# Altium footprint library PMA3-63GLN&plus_.PcbLib: 3 footprints
Each footprint in its own frame and in the unit in brackets; x right, y up, seen from the top. Pads: shape width x height; smd on the part's side, far side on the other; paste and mask are expansions set on the pad; w line width, h text height; cw(c..) or ccw(c..) is an arc to the next point about the centre after c.
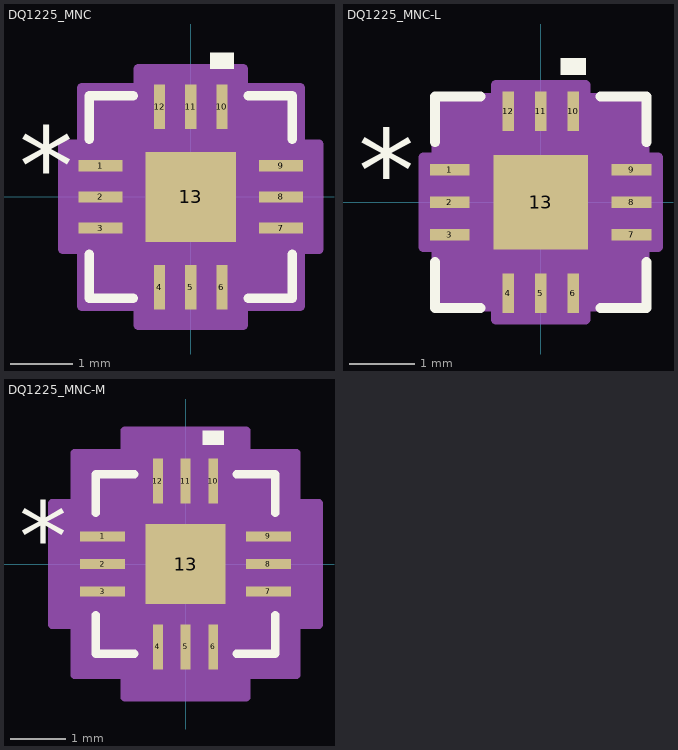
[diagram p0: the footprints below, top view; thin cyan lines are the x and y axes]

## DQ1225_MNC [mil]
pads (13):
  rect 28x7 smd paste+0 mask+0: 1(-57,19.68) 2(-57,0) 3(-57,-19.68) 7(57,-19.68) 8(57,0) 9(57,19.68)
  rect 7x28 smd paste+0 mask+0: 4(-19.68,-57) 5(0,-57) 6(19.68,-57) 10(19.68,57) 11(0,57) 12(-19.68,57)
  rect 57x57 smd paste+0 mask+0: 13(0,0)
Top Overlay:
  region: 27.18,81 12.19,81 12.19,91 27.18,91
  lines w6: -64,-36.28 -64,-64 -36.28,-64 ; -64,36.28 -64,64 -36.28,64 ; 36.28,-64 64,-64 64,-36.28 ; 36.28,64 64,64 64,36.28
  text "*" at -108.5,-5.32 h50
Mechanical 13:
  lines w1: -59,9 -9,59 ; -59,-24.18 -59,-15.19 ; -59,-24.18 -59,-15.19 ; -59,-24.18 -59,-24.18 ; -59,-15.19 -59,-15.19 ; -59,-4.5 -59,4.5 ; -59,-4.5 -59,4.5 ; -59,-4.5 -59,-4.5 ; -59,4.5 -59,4.5 ; -59,15.19 -59,24.18 ; -59,15.19 -59,24.18 ; -59,15.19 -59,15.19 ; -59,24.18 -59,24.18 ; -24.18,-59 -15.19,-59 ; -24.18,-59 -24.18,-59 ; -24.18,-59 -15.19,-59 ; -24.18,59 -15.19,59 ; -24.18,59 -15.19,59 ; -24.18,59 -24.18,59 ; -15.19,-59 -15.19,-59 ; -15.19,59 -15.19,59 ; -4.5,-59 4.5,-59 ; -4.5,-59 -4.5,-59 ; -4.5,-59 4.5,-59 ; -4.5,59 4.5,59 ; -4.5,59 4.5,59 ; -4.5,59 -4.5,59 ; 4.5,-59 4.5,-59 ; 4.5,59 4.5,59 ; 15.19,-59 24.18,-59 ; 15.19,-59 15.19,-59 ; 15.19,-59 24.18,-59 ; 15.19,59 24.18,59 ; 15.19,59 24.18,59 ; 15.19,59 15.19,59 ; 24.18,-59 24.18,-59 ; 24.18,59 24.18,59 ; 59,-24.18 59,-15.19 ; 59,-24.18 59,-24.18 ; 59,-24.18 59,-15.19 ; 59,-15.19 59,-15.19 ; 59,-4.5 59,4.5 ; 59,-4.5 59,-4.5 ; 59,-4.5 59,4.5 ; 59,4.5 59,4.5 ; 59,15.19 59,24.18 ; 59,15.19 59,15.19 ; 59,15.19 59,24.18 ; 59,24.18 59,24.18 ; -59,-59 59,-59 59,59 -59,59 -59,-59
  text "*" at -30.5,-5.32 h50
Mechanical 15:
  region: -33.19,-69 -69,-69 -69,-33.19 -81,-33.19 -81,33.19 -69,33.19 -69,69 -33.19,69 -33.19,81 33.19,81 33.19,69 69,69 69,33.19 81,33.19 81,-33.19 69,-33.19 69,-69 33.19,-69 33.19,-81 -33.19,-81
  lines w6: -81,-33.19 -69,-33.19 -69,-69 -33.19,-69 -33.19,-81 33.19,-81 33.19,-69 69,-69 69,-33.19 81,-33.19 81,33.19 69,33.19 69,69 33.19,69 33.19,81 -33.19,81 -33.19,69 -69,69 -69,33.19 -81,33.19 -81,-33.19
3D body "DQ1225_MNC.step": height 35.12, standoff 0, extent -59.02,-59.02 59.02,59.02

## DQ1225_MNC-L [mil]
pads (13):
  rect 24x7 smd paste+0 mask+0: 1(-55,19.68) 2(-55,0) 3(-55,-19.68) 7(55,-19.68) 8(55,0) 9(55,19.68)
  rect 7x24 smd paste+0 mask+0: 4(-19.68,-55) 5(0,-55) 6(19.68,-55) 10(19.68,55) 11(0,55) 12(-19.68,55)
  rect 57x57 smd paste+0 mask+0: 13(0,0)
Top Overlay:
  region: 27.18,77 12.19,77 12.19,87 27.18,87
  lines w6: -64,-36.28 -64,-64 -36.28,-64 ; -64,36.28 -64,64 -36.28,64 ; 36.28,-64 64,-64 64,-36.28 ; 36.28,64 64,64 64,36.28
  text "*" at -110.5,-5.32 h50
Mechanical 13:
  lines w1: -59,9 -9,59 ; -59,-24.18 -59,-15.19 ; -59,-24.18 -59,-15.19 ; -59,-24.18 -59,-24.18 ; -59,-15.19 -59,-15.19 ; -59,-4.5 -59,4.5 ; -59,-4.5 -59,4.5 ; -59,-4.5 -59,-4.5 ; -59,4.5 -59,4.5 ; -59,15.19 -59,24.18 ; -59,15.19 -59,24.18 ; -59,15.19 -59,15.19 ; -59,24.18 -59,24.18 ; -24.18,-59 -15.19,-59 ; -24.18,-59 -24.18,-59 ; -24.18,-59 -15.19,-59 ; -24.18,59 -15.19,59 ; -24.18,59 -15.19,59 ; -24.18,59 -24.18,59 ; -15.19,-59 -15.19,-59 ; -15.19,59 -15.19,59 ; -4.5,-59 4.5,-59 ; -4.5,-59 -4.5,-59 ; -4.5,-59 4.5,-59 ; -4.5,59 4.5,59 ; -4.5,59 4.5,59 ; -4.5,59 -4.5,59 ; 4.5,-59 4.5,-59 ; 4.5,59 4.5,59 ; 15.19,-59 24.18,-59 ; 15.19,-59 15.19,-59 ; 15.19,-59 24.18,-59 ; 15.19,59 24.18,59 ; 15.19,59 24.18,59 ; 15.19,59 15.19,59 ; 24.18,-59 24.18,-59 ; 24.18,59 24.18,59 ; 59,-24.18 59,-15.19 ; 59,-24.18 59,-24.18 ; 59,-24.18 59,-15.19 ; 59,-15.19 59,-15.19 ; 59,-4.5 59,4.5 ; 59,-4.5 59,-4.5 ; 59,-4.5 59,4.5 ; 59,4.5 59,4.5 ; 59,15.19 59,24.18 ; 59,15.19 59,15.19 ; 59,15.19 59,24.18 ; 59,24.18 59,24.18 ; -59,-59 59,-59 59,59 -59,59 -59,-59
  text "*" at -24.5,-5.32 h50
Mechanical 15:
  region: -27.18,-63 -63,-63 -63,-27.18 -71,-27.18 -71,27.18 -63,27.18 -63,63 -27.18,63 -27.18,71 27.18,71 27.18,63 63,63 63,27.18 71,27.18 71,-27.18 63,-27.18 63,-63 27.18,-63 27.18,-71 -27.18,-71
  lines w6: -71,-27.18 -63,-27.18 -63,-63 -27.18,-63 -27.18,-71 27.18,-71 27.18,-63 63,-63 63,-27.18 71,-27.18 71,27.18 63,27.18 63,63 27.18,63 27.18,71 -27.18,71 -27.18,63 -63,63 -63,27.18 -71,27.18 -71,-27.18
3D body "DQ1225_MNC.step": height 35.12, standoff 0, extent -59.02,-59.02 59.02,59.02

## DQ1225_MNC-M [mil]
pads (13):
  rect 32x7 smd paste+0 mask+0: 1(-59,19.68) 2(-59,0) 3(-59,-19.68) 7(59,-19.68) 8(59,0) 9(59,19.68)
  rect 7x32 smd paste+0 mask+0: 4(-19.68,-59) 5(0,-59) 6(19.68,-59) 10(19.68,59) 11(0,59) 12(-19.68,59)
  rect 57x57 smd paste+0 mask+0: 13(0,0)
Top Overlay:
  region: 27.18,85 12.19,85 12.19,95 27.18,95
  lines w6: -64,-36.28 -64,-64 -36.28,-64 ; -64,36.28 -64,64 -36.28,64 ; 36.28,-64 64,-64 64,-36.28 ; 36.28,64 64,64 64,36.28
  text "*" at -118.5,-5.32 h50
Mechanical 13:
  lines w1: -59,9 -9,59 ; -59,-24.18 -59,-15.19 ; -59,-24.18 -59,-15.19 ; -59,-24.18 -59,-24.18 ; -59,-15.19 -59,-15.19 ; -59,-4.5 -59,4.5 ; -59,-4.5 -59,4.5 ; -59,-4.5 -59,-4.5 ; -59,4.5 -59,4.5 ; -59,15.19 -59,24.18 ; -59,15.19 -59,24.18 ; -59,15.19 -59,15.19 ; -59,24.18 -59,24.18 ; -24.18,-59 -15.19,-59 ; -24.18,-59 -24.18,-59 ; -24.18,-59 -15.19,-59 ; -24.18,59 -15.19,59 ; -24.18,59 -15.19,59 ; -24.18,59 -24.18,59 ; -15.19,-59 -15.19,-59 ; -15.19,59 -15.19,59 ; -4.5,-59 4.5,-59 ; -4.5,-59 -4.5,-59 ; -4.5,-59 4.5,-59 ; -4.5,59 4.5,59 ; -4.5,59 4.5,59 ; -4.5,59 -4.5,59 ; 4.5,-59 4.5,-59 ; 4.5,59 4.5,59 ; 15.19,-59 24.18,-59 ; 15.19,-59 15.19,-59 ; 15.19,-59 24.18,-59 ; 15.19,59 24.18,59 ; 15.19,59 24.18,59 ; 15.19,59 15.19,59 ; 24.18,-59 24.18,-59 ; 24.18,59 24.18,59 ; 59,-24.18 59,-15.19 ; 59,-24.18 59,-24.18 ; 59,-24.18 59,-15.19 ; 59,-15.19 59,-15.19 ; 59,-4.5 59,4.5 ; 59,-4.5 59,-4.5 ; 59,-4.5 59,4.5 ; 59,4.5 59,4.5 ; 59,15.19 59,24.18 ; 59,15.19 59,15.19 ; 59,15.19 59,24.18 ; 59,24.18 59,24.18 ; -59,-59 59,-59 59,59 -59,59 -59,-59
  text "*" at -24.5,-5.32 h50
Mechanical 15:
  region: -43.19,-79 -79,-79 -79,-43.19 -95,-43.19 -95,43.19 -79,43.19 -79,79 -43.19,79 -43.19,95 43.19,95 43.19,79 79,79 79,43.19 95,43.19 95,-43.19 79,-43.19 79,-79 43.19,-79 43.19,-95 -43.19,-95
  lines w6: -95,-43.19 -79,-43.19 -79,-79 -43.19,-79 -43.19,-95 43.19,-95 43.19,-79 79,-79 79,-43.19 95,-43.19 95,43.19 79,43.19 79,79 43.19,79 43.19,95 -43.19,95 -43.19,79 -79,79 -79,43.19 -95,43.19 -95,-43.19
3D body "DQ1225_MNC.step": height 35.12, standoff 0, extent -59.02,-59.02 59.02,59.02